# Altium footprint library RCDQLY.PCBLIB: 79 footprints (part 5 of 5)
Each footprint in its own frame and in the unit in brackets; x right, y up, seen from the top. Pads: shape width x height; smd on the part's side, far side on the other; paste and mask are expansions set on the pad; w line width, h text height; cw(c..) or ccw(c..) is an arc to the next point about the centre after c.
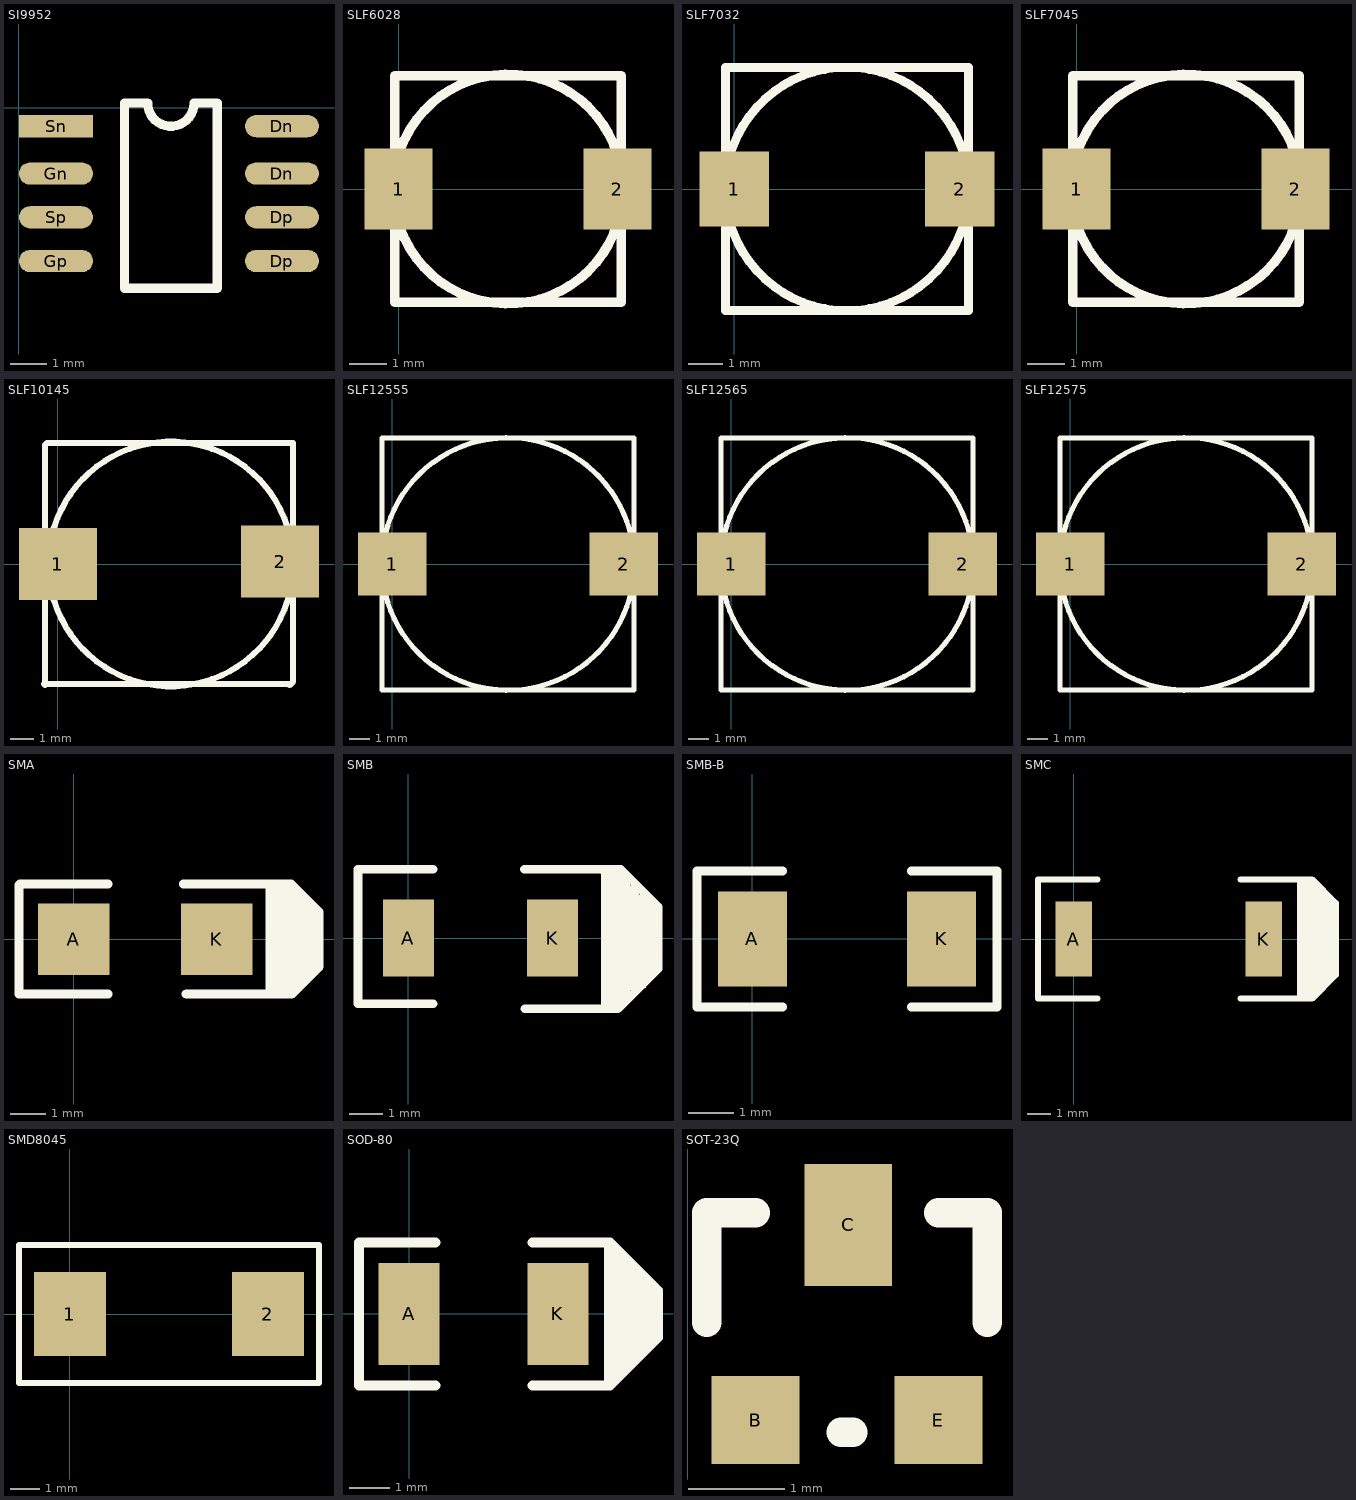
[diagram p4: the footprints below, top view; thin cyan lines are the x and y axes]

## SI9952 [mil]
pads (8):
  oval 80x24 smd: Dn(284.41,-71.18) Dn(284.41,-20) Dp(284.41,-165.67) Dp(284.41,-118.42) Gn(40.31,-71.18) Gp(40.31,-165.67) Sp(40.31,-118.42)
  rect 80x24 smd: Sn(40.31,-20)
TopOverlay:
  lines w10: 114.39,-195.06 214.39,-195.06 214.39,4.94 189.39,4.94 cw(c164.39,4.94) 139.39,4.94 114.39,4.94 114.39,-195.06

## SLF6028 [mm]
pads (2):
  rect 1.8x2.15 smd: 1(0,0) 2(5.8,0)
TopOverlay:
  circle w0.254: c2.9,0 r3.041
  lines w0.254: -0.1,-3 -0.1,3 5.9,3 5.9,-3 -0.1,-3

## SLF7032 [mm]
pads (2):
  rect 2x2.15 smd: 1(0,0) 2(6.5,0)
TopOverlay:
  circle w0.254: c3.25,0 r3.509
  lines w0.254: -0.25,-3.5 6.75,-3.5 6.75,3.5 -0.25,3.5 -0.25,-3.5

## SLF7045 [mm]
pads (2):
  rect 1.8x2.15 smd: 1(0,0) 2(5.8,0)
TopOverlay:
  circle w0.254: c2.9,0 r3.041
  lines w0.254: -0.1,-3 5.9,-3 5.9,3 -0.1,3 -0.1,-3

## SLF10145 [mil]
pads (2):
  rect 130x120 smd: 1(0,0) 2(370.08,3.94)
TopOverlay:
  circle w10: c188.04,0 r204.01
  lines w10: -22.96,-200 385.04,-200 ; -21.96,-202 -21.96,0 ; -21.96,-12 -21.96,198 -17.96,202 392.04,202 392.04,-196 ; 392.04,-196 386.04,-202 392.04,-196

## SLF12555 [mm]
pads (2):
  rect 3.4x3.15 smd: 1(0,0) 2(11.5,0)
TopOverlay:
  circle w0.254: c5.75,0 r6.27
  lines w0.254: -0.5,-6.25 -0.5,6.25 12,6.25 12,-6.25 -0.5,-6.25

## SLF12565 [mm]
pads (2):
  rect 3.4x3.15 smd: 1(0,0) 2(11.5,0)
TopOverlay:
  circle w0.254: c5.75,0 r6.27
  lines w0.254: -0.5,-6.25 12,-6.25 12,6.25 -0.5,6.25 -0.5,-6.25

## SLF12575 [mm]
pads (2):
  rect 3.4x3.15 smd: 1(0,0) 2(11.5,0)
TopOverlay:
  circle w0.254: c5.75,0 r6.27
  lines w0.254: -0.5,-6.25 12,-6.25 12,6.25 -0.5,6.25 -0.5,-6.25

## SMA [mm]
pads (2):
  rect 2x2 smd: A(0,0) K(4,0)
TopOverlay:
  rectangle: 6.35,-0.762 6.858,-0.381
  rectangle: 6.325,-0.61 6.858,0.762
  rectangle: 6.223,-1.118 6.625,0.995
  rectangle: 5.486,-1.295 6.379,1.241
  rectangle: 5.486,-1.473 6.147,1.524
  lines w0.254: -1.524,1.524 -1.524,-1.524 0.965,-1.524 ; -1.499,1.549 0.965,1.549 ; 3.073,1.549 5.486,1.549 6.02,1.549 6.071,1.549 6.833,0.787 6.858,0.762 6.858,-0.762 6.147,-1.473 6.096,-1.524 5.486,-1.524 ; 3.15,-1.524 5.486,-1.524 ; 5.486,1.524 5.486,-1.524 ; 6.262,1.358 6.262,1.033 6.262,0.825 6.431,0.995 6.498,0.995 6.858,0.635 ; 6.579,-0.838 6.579,-0.61

## SMB [mm]
pads (2):
  rect 1.52x2.3 smd: A(0,0) K(4.3,0)
TopOverlay:
  rectangle: 7.041,0.737 7.366,1.016
  rectangle: 7.191,0.737 7.214,1.191
  rectangle: 7.041,0.737 7.214,1.341
  rectangle: 6.833,-1.092 7.442,0.94
  rectangle: 6.756,-1.482 7.083,1.299
  rectangle: 6.528,-1.565 6.791,1.575
  rectangle: 6.756,-1.482 6.875,1.626
  rectangle: 6.492,-1.864 6.601,1.781
  rectangle: 6.376,-1.864 6.492,1.956
  rectangle: 6.248,-1.981 6.376,1.956
  rectangle: 5.867,-2.108 6.248,1.956
  lines w0.254: 0.744,-1.956 -1.499,-1.956 -1.499,2.057 0.749,2.057 ; 3.457,2.057 5.766,2.057 ; 3.475,-2.108 5.867,-2.108 ; 5.766,2.057 6.325,2.057 7.366,1.016 7.442,0.94 7.442,-0.914 6.248,-2.108 5.867,-2.108 ; 5.766,2.057 5.867,1.956 5.867,-2.108

## SMB-B [mil]
pads (2):
  rect 60x82 smd: A(0,0) K(164,0)
TopOverlay:
  lines w8: 26,-59 -48,-59 -48,59 26,59 ; 138,-59 212,-59 212,59 138,59

## SMC [mm]
pads (2):
  rect 1.55x3.2 smd: A(0,0) K(8.1,0)
TopOverlay:
  rectangle: 9.652,-2.54 10.16,2.54
  rectangle: 10.16,-1.524 11.176,1.524
  rectangle: 10.033,1.397 10.414,2.286
  rectangle: 9.906,-2.286 10.541,-1.397
  rectangle: 10.287,1.27 10.668,2.032
  rectangle: 10.541,-1.905 10.795,-1.397
  rectangle: 10.668,1.27 11.015,1.685
  rectangle: 10.611,1.708 10.798,1.902
  rectangle: 10.668,1.685 10.937,1.763
  rectangle: 10.344,1.975 10.552,2.148
  rectangle: 10.033,2.286 10.332,2.368
  lines w0.254: 1.016,-2.54 -1.524,-2.54 -1.524,2.54 1.016,2.54 ; 7.112,-2.54 9.652,-2.54 ; 7.112,2.54 9.652,2.54 ; 10.033,2.286 10.922,1.397 ; 10.922,-1.524 10.16,-2.286 10.16,-2.54 ; 9.652,-2.54 9.652,2.54 ; 9.652,-2.54 10.16,-2.54 ; 9.652,2.54 10.16,2.54 ; 10.16,-2.54 11.176,-1.524 11.176,1.524 ; 10.16,2.54 11.176,1.524 ; 10.16,2.54 11.176,1.524

## SMD8045 [mm]
pads (2):
  rect 2.4x2.8 smd: 1(0,0) 2(6.6,0)
TopOverlay:
  lines w0.203: -1.7,-2.3 -1.7,2.3 8.253,2.3 ; -1.653,-2.3 8.3,-2.3 8.3,2.3

## SOD-80 [mil]
pads (2):
  rect 60x100 smd: A(0,0) K(146,0)
TopOverlay:
  rectangle: 218,-38 232,40
  rectangle: 229,19 235.21,31.79
  rectangle: 226,-29 241,26
  rectangle: 205,-52 222,47
  rectangle: 205,-52 214,54
  rectangle: 196,-60 207.99,59.01
  lines w10: 26,-70 -49,-70 -49,70 26,70 ; 121,-70 196,-70 ; 121,70 196,70 ; 241,26 197,70 196,70 ; 244,23 244,-23 197,-70 196,-70 ; 196,-70 196,-67 196,-70 ; 196,-70 196,70

## SOT-23Q [mil]
pads (3):
  rect 36x36 smd: B(27.75,-120.28) E(102.75,-120.28)
  rect 36x50 smd: C(65.75,-40.28)
TopOverlay:
  lines w12: 7.75,-80.28 7.75,-35.28 27.75,-35.28 ; 62.76,-125.28 67.75,-125.28 ; 102.75,-35.28 122.75,-35.28 122.75,-80.28